# EAGLE library part INA145 (library QuantumOptics)
INA145, Burr-Brown/T.I., instrumentation amp, CMR >85dB, 2(V-) < Vcm < 2(V+)-2.
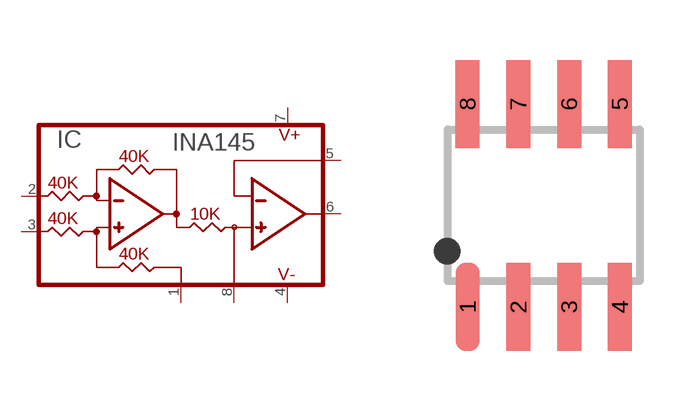
[diagram p20: symbol with the pads of SOIC-8; footprint SOIC-8]

Designator prefix IC

## INA145UA  [SOIC-8]
1  IN-REF  in
2  IN-  in
3  IN+
4  V-  in
5  RG  in
6  OUT  out
7  V+  in
8  VOI

## Footprint SOIC-8 (pad centres in mm)
SOIC-8 (a.k.a. SO-8), pads on 0.050" x 0.200" c-c spacing.
smd 0.6 x 2.2: 1 -1.27,-2.54; 2 0,-2.54; 3 1.27,-2.54; 4 2.54,-2.54; 5 2.54,2.54; 6 1.27,2.54; 7 0,2.54; 8 -1.27,2.54